# Altium schematic symbol library 555.Schlib: 1 symbol
Pins are listed as number, name and electrical type; pins without a type are passive.

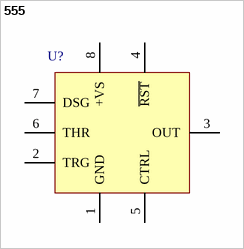
[diagram p0: symbol 555]

## 555
designator U?  (value not drawn)
555 Timer
pins: 1 GND, 2 TRG, 3 OUT, 4 ~{RST}, 5 CTRL, 6 THR, 7 DSG, 8 +VS